# Altium schematic symbol library TCA9517.Schlib: 1 symbol
Pins are listed as number, name and electrical type; pins without a type are passive.

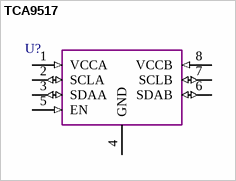
[diagram p0: symbol TCA9517]

## TCA9517
designator U?  (value not drawn)
pins: 1 VCCA (in), 2 SCLA (io), 3 SDAA (io), 4 GND, 5 EN (in), 6 SDAB (io), 7 SCLB (io), 8 VCCB (in)